# EAGLE library part LT3579EFE#PBF (library LT3579_SEPIC_Test_Bench)
Linear Technology LT3579EFE#PBF, Boost, Inverting DC-DC Converter, 6A, Adjustable, 20-Pin TSSOP Source: Datasheet <http://www.analog.com/media/en/technical-documentation/data-sheets/35791fa.pdf>
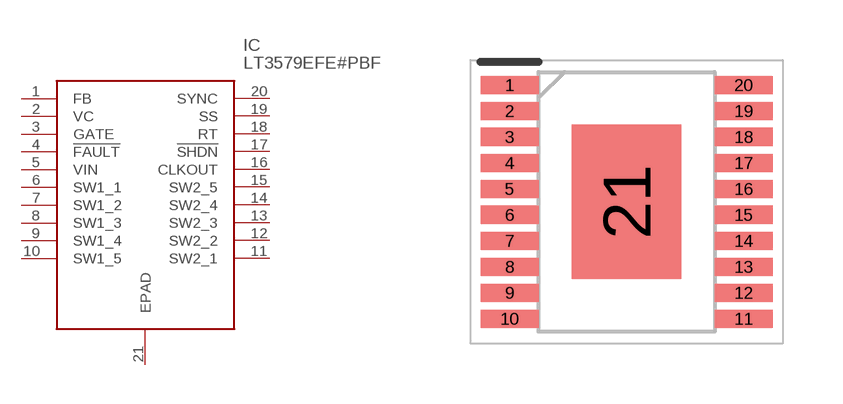
[diagram p1: symbol with the pads of SOP65P640X120-21N; footprint SOP65P640X120-21N]

Designator prefix IC

## LT3579EFE#PBF (ARROW_PART_NUMBER: LT3579EFE#PBF; ARROW_PRICE-STOCK: https://www.arrow.com/en/products/lt3579efepbf/linear-technology; DESCRIPTION: Linear Technology LT3579EFE#PBF, Boost, Inverting DC-DC Converter, 6A, Adjustable, 20-Pin TSSOP; HEIGHT: 1.2mm; MANUFACTURER_NAME: Linear Technology; MANUFACTURER_PART_NUMBER: LT3579EFE#PBF; MOUSER_PART_NUMBER: 584-LT3579EFE#PBF; MOUSER_PRICE-STOCK: https://www.mouser.com/Search/Refine.aspx?Keyword=584-LT3579EFE%23PBF)  [SOP65P640X120-21N]
1  FB
2  VC
3  GATE
4  !FAULT
5  VIN
6  SW1_1
7  SW1_2
8  SW1_3
9  SW1_4
10  SW1_5
11  SW2_1
12  SW2_2
13  SW2_3
14  SW2_4
15  SW2_5
16  CLKOUT
17  !SHDN
18  RT
19  SS
20  SYNC
21  EPAD

## Footprint SOP65P640X120-21N (pad centres in mm)
TSSOP20_6.6X4.5X0.65
smd 1.45 x 0.45: 1 -2.925,2.925; 2 -2.925,2.275; 3 -2.925,1.625; 4 -2.925,0.975; 5 -2.925,0.325; 6 -2.925,-0.325; 7 -2.925,-0.975; 8 -2.925,-1.625; 9 -2.925,-2.275; 10 -2.925,-2.925; 11 2.925,-2.925; 12 2.925,-2.275; 13 2.925,-1.625; 14 2.925,-0.975; 15 2.925,-0.325; 16 2.925,0.325; 17 2.925,0.975; 18 2.925,1.625; 19 2.925,2.275; 20 2.925,2.925
smd 2.74 x 3.86: 21 0,0